# Altium integrated library Parts (Riley Duffy's conflicted copy 2015-01-29).IntLib: 10 symbols
Pins are listed as number, name and electrical type; pins without a type are passive.

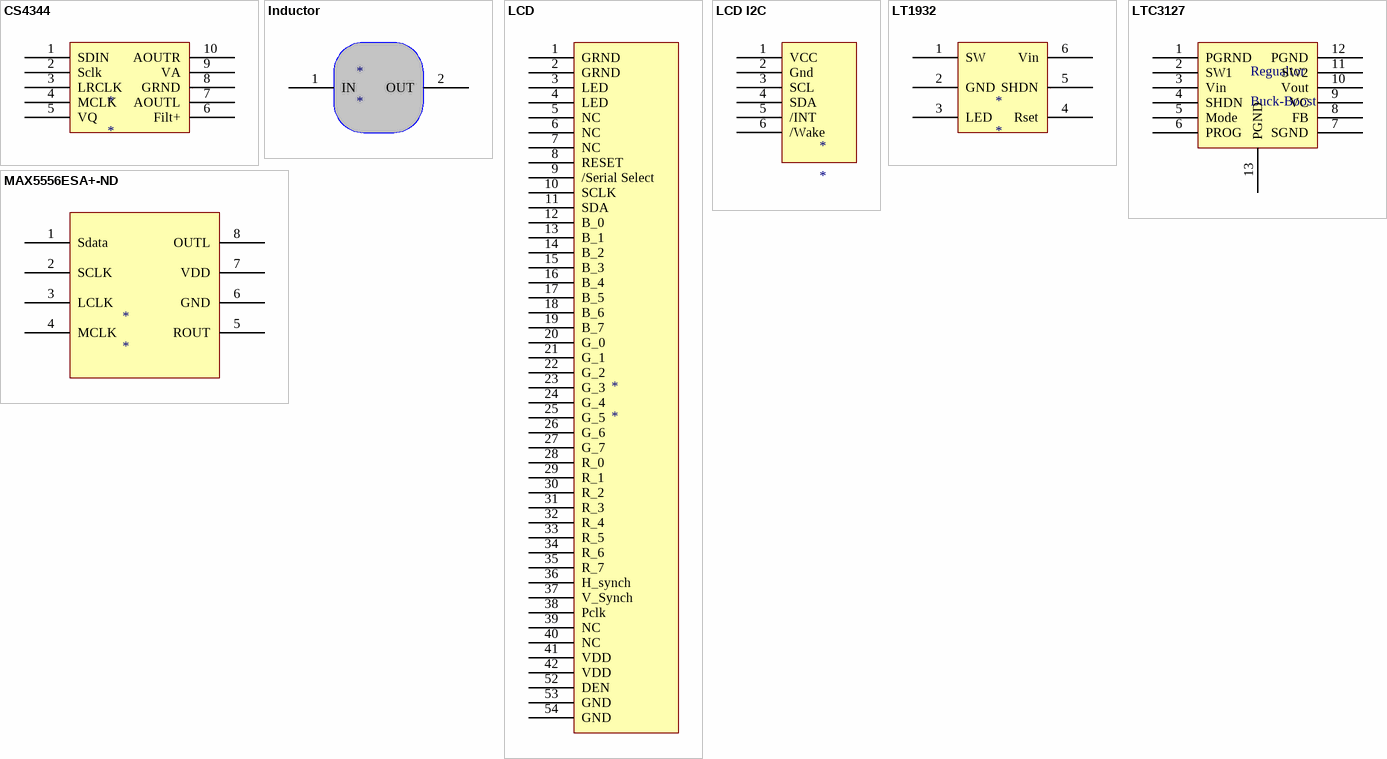
[diagram p0: symbols CS4344 to MAX5556ESA+-ND]

## CS4344
designator *
footprint TSSOP10 - duplicate1
pins: 1 SDIN "Data In", 2 Sclk "Data Clock", 3 LRCLK "Left/Right selector", 4 MCLK "Master Clock", 5 VQ "Noise Control", 6 Filt+, 7 AOUTL, 8 GRND, 9 VA, 10 AOUTR

## Inductor
designator *
footprint Inductor
pins: 1 IN, 2 OUT

## LCD
designator *
footprint Molex54 - duplicate2; pin to pad 1>A1 2>A2 3>A3 4>A4 5>A5 6>A6 7>A7 8>A8 9>A9 10>A10 11>A11 12>A12 13>A13 14>A14 15>A15 16>A16 17>A17 18>A18 19>A19 20>A20 21>A21 22>A22 23>A23 24>A24 25>A25 26>A26 27>A27 28>A28 29>A29 30>A30 31>A31 32>A32 33>A33 34>A34 35>A35 36>A36 37>A37 38>A38 39>A39 40>A40 41>A41 42>A42 52>A52 53>A53 54>A54
pins: 1 GRND, 2 GRND, 3 LED, 4 LED, 5 NC, 6 NC, 7 NC, 8 RESET, 9 /Serial Select, 10 SCLK, 11 SDA, 12 B_0, 13 B_1, 14 B_2, 15 B_3, 16 B_4, 17 B_5, 18 B_6, 19 B_7, 20 G_0, 21 G_1, 22 G_2, 23 G_3, 24 G_4, 25 G_5, 26 G_6, 27 G_7, 28 R_0, 29 R_1, 30 R_2, 31 R_3, 32 R_4, 33 R_5, 34 R_6, 35 R_7, 36 H_synch, 37 V_Synch, 38 Pclk, 39 NC, 40 NC, 41 VDD, 42 VDD, 52 DEN, 53 GND, 54 GND

## LCD I2C
designator *
footprint Molex6
pins: 1 VCC, 2 Gnd, 3 SCL, 4 SDA, 5 /INT, 6 /Wake

## LT1932
designator *
footprint SOT6
pins: 1 SW "To Inductor", 2 GND, 3 LED "To Backlight", 4 Rset "To Backlight", 5 SHDN, 6 Vin

## LTC3127
designator Regualtor, comment Buck-Boost
footprint MSOP12W - duplicate
pins: 1 PGRND "Connect to Supply Grnd", 2 SW1 "Connect to Inductor", 3 Vin "Connect to Batery", 4 SHDN "Shutdown Active Low", 5 Mode "Tie High", 6 PROG "Set output", 7 SGND "System Ground", 8 FB "Feed Back", 9 VC "Cap Voltage", 10 Vout "Output Voltage", 11 SW2 "Connect to Inductor", 12 PGND (power) "Connect to Supply", 13 PGND "Power Ground"

## MAX5556ESA+-ND
designator *
footprint SOIC8_DAC
pins: 1 Sdata, 2 SCLK, 3 LCLK, 4 MCLK, 5 ROUT, 6 GND, 7 VDD, 8 OUTL

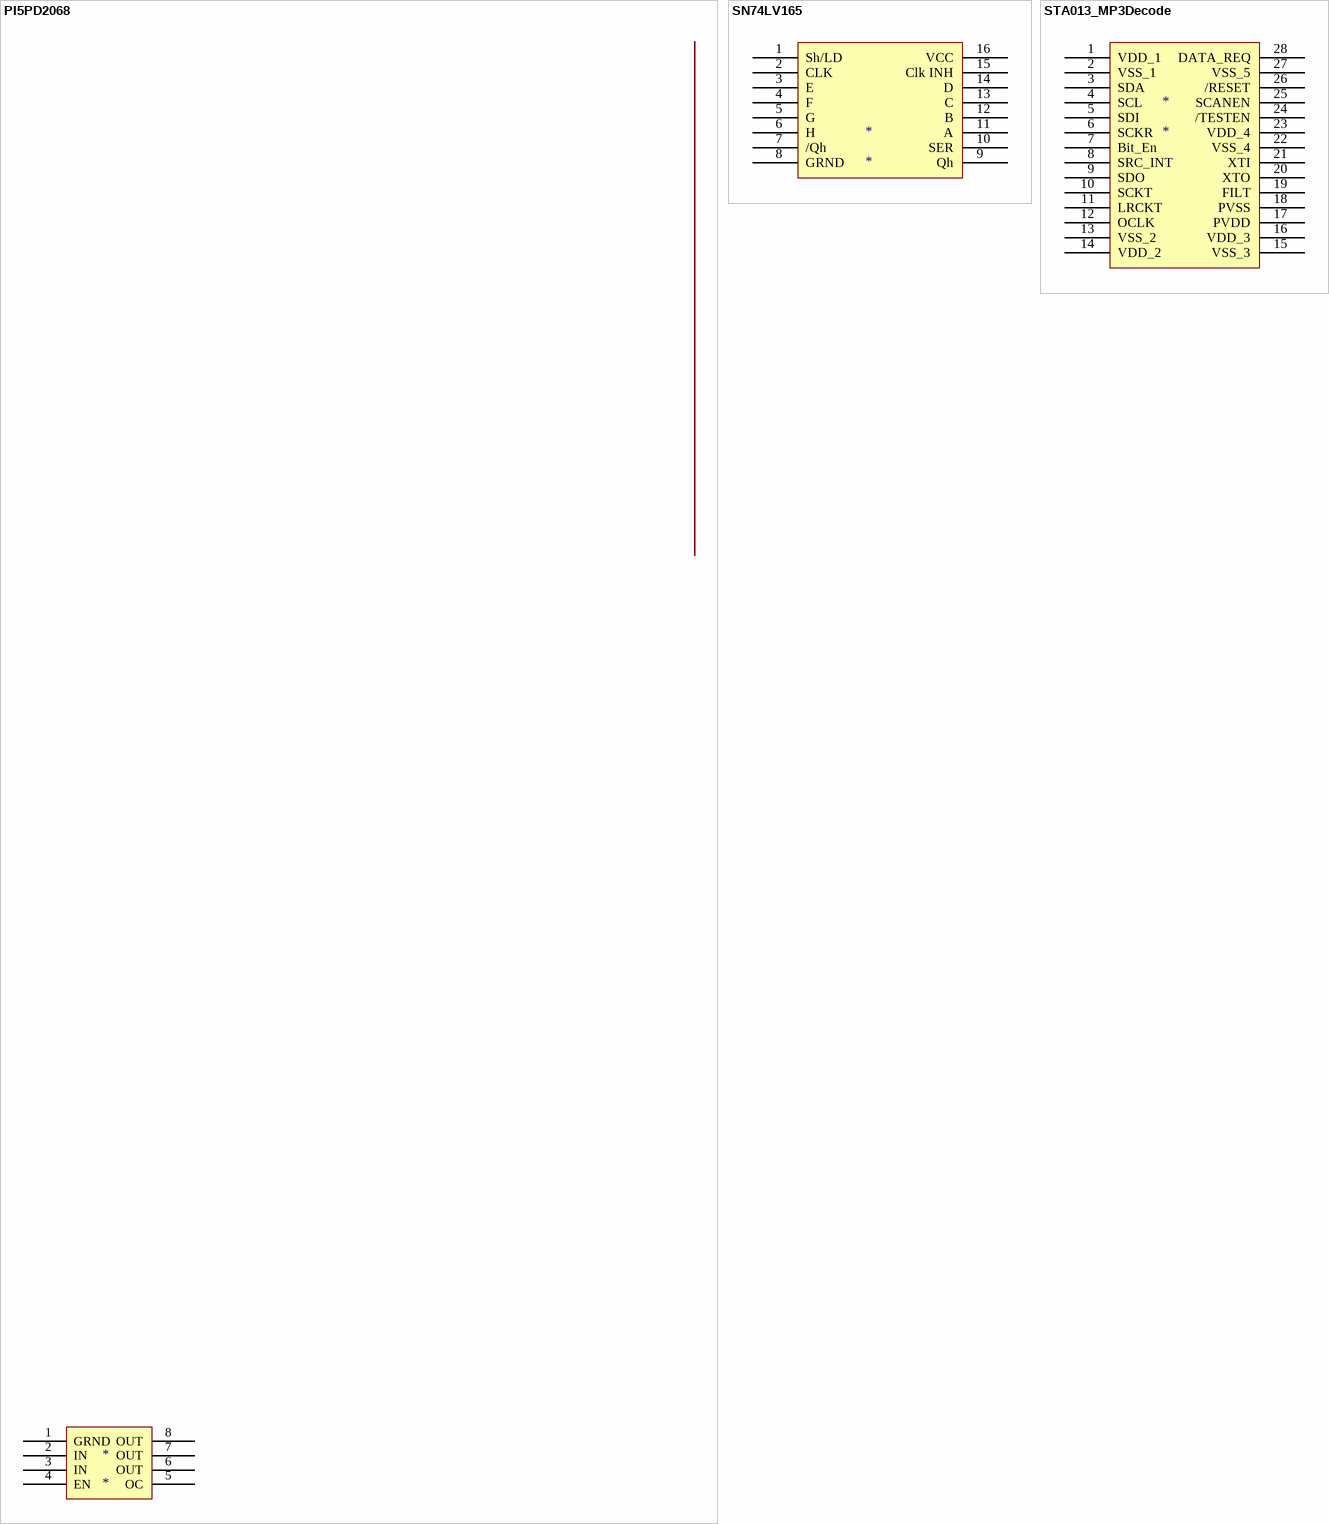
[diagram p1: symbols PI5PD2068 to STA013_MP3Decode]

## PI5PD2068
designator *
footprint SOP8 - duplicate
pins: 1 GRND, 2 IN, 3 IN, 4 EN, 5 OC, 6 OUT, 7 OUT, 8 OUT

## SN74LV165
designator *
footprint TSSOP16 - duplicate
pins: 1 Sh/LD, 2 CLK, 3 E, 4 F, 5 G, 6 H, 7 /Qh, 8 GRND, 9 Qh, 10 SER, 11 A, 12 B, 13 C, 14 D, 15 Clk INH, 16 VCC

## STA013_MP3Decode
designator *
footprint SOP28
pins: 1 VDD_1, 2 VSS_1, 3 SDA, 4 SCL, 5 SDI, 6 SCKR, 7 Bit_En, 8 SRC_INT, 9 SDO, 10 SCKT, 11 LRCKT, 12 OCLK, 13 VSS_2, 14 VDD_2, 15 VSS_3, 16 VDD_3, 17 PVDD, 18 PVSS, 19 FILT, 20 XTO, 21 XTI, 22 VSS_4, 23 VDD_4, 24 /TESTEN, 25 SCANEN, 26 /RESET, 27 VSS_5, 28 DATA_REQ